# EAGLE library part LM4871 (library neels)
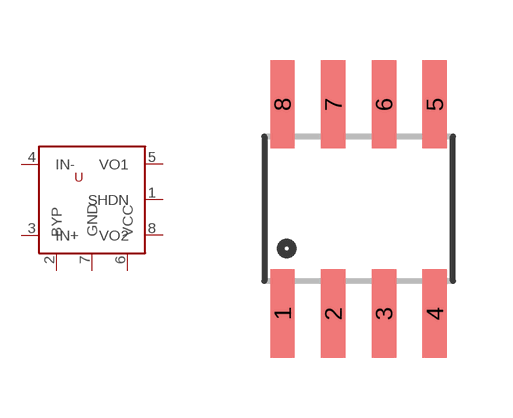
[diagram p15: symbol with the pads of SOIC8; footprint SOIC8]

Designator prefix -

## LM4871  [SOIC8]
1  SHDN
2  BYP
3  IN+
4  IN-
5  VO1
6  VCC
7  GND
8  VO2

## Footprint SOIC8 (pad centres in mm)
smd 0.61 x 2.21: 1 -1.905,-2.616; 2 -0.635,-2.616; 3 0.635,-2.616; 4 1.905,-2.616; 5 1.905,2.616; 6 0.635,2.616; 7 -0.635,2.616; 8 -1.905,2.616